# Altium footprint library Resistor.PcbLib: 22 footprints (part 2 of 2)
Each footprint in its own frame and in the unit in brackets; x right, y up, seen from the top. Pads: shape width x height; smd on the part's side, far side on the other; paste and mask are expansions set on the pad; w line width, h text height; cw(c..) or ccw(c..) is an arc to the next point about the centre after c.
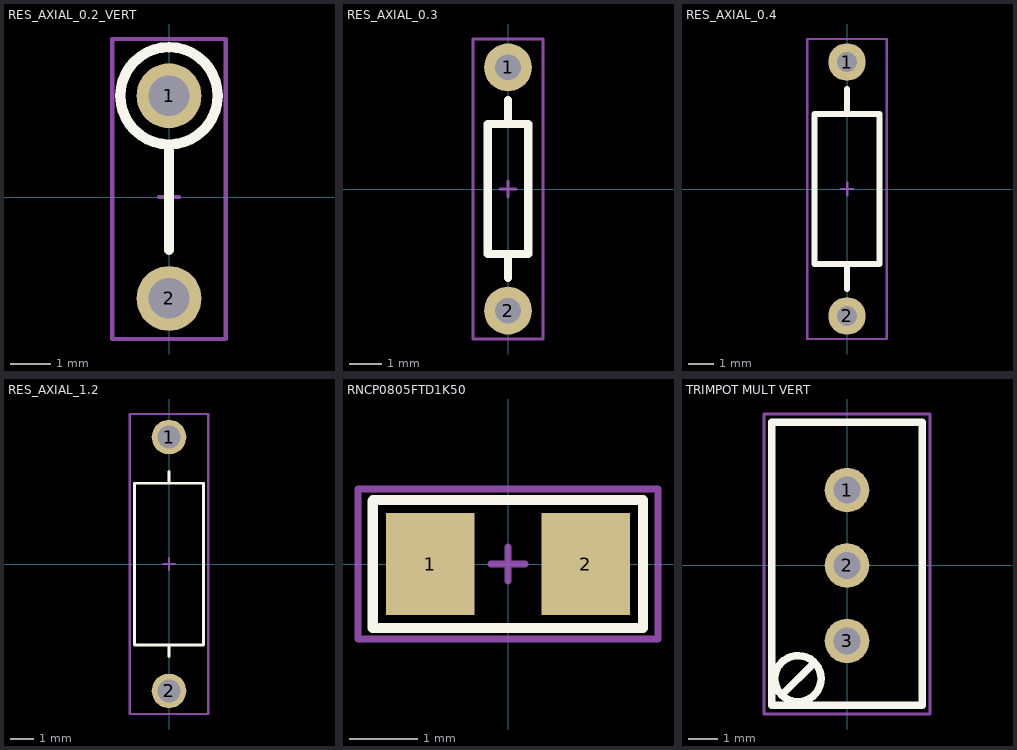
[diagram p1: the footprints below, top view; thin cyan lines are the x and y axes]

## RES_AXIAL_0.2_VERT [mm]
pads (2):
  round 1.6 hole 1 mask+0.127: 1(0,2.5) 2(0,-2.5)
Top Overlay:
  circle w0.254: c0,2.5 r1.2
  lines w0.254: 0,-1.3 0,1.3
Mechanical 15:
  lines w0.1: -0.25,0 0.25,0 ; 0,-0.25 0,0.25 ; -1.4,-3.5 -1.4,3.9 1.4,3.9 1.4,-3.5 -1.4,-3.5
3D body "User Library-RESAD500W60L650D230_0_25W.STEP": height 9.83, standoff -2.47, extent -1.15,-2.8 1.15,3.65

## RES_AXIAL_0.3 [mm]
pads (2):
  round 1.5 hole 0.8 mask+0.127: 1(0,3.81) 2(0,-3.81)
Top Overlay:
  lines w0.254: 0,-2.794 0,-2.032 ; 0,2.032 0,2.794 ; -0.635,-2.032 0.635,-2.032 0.635,2.032 -0.635,2.032 -0.635,-2.032
Mechanical 15:
  lines w0.1: -0.25,0 0.25,0 ; 0,-0.25 0,0.25 ; -1.1,-4.7 -1.1,4.7 1.1,4.7 1.1,-4.7 -1.1,-4.7
3D body "SW3DPS-RESISTOR 7_62MM DIP-DEFAULT.step": height 2.1, standoff -1.9, extent -1,-4.05 1,4.05

## RES_AXIAL_0.4 [mm]
pads (2):
  round 1.5 hole 0.8 mask+0.127: 1(0,5.08) 2(0,-5.08)
Top Overlay:
  lines w0.254: 0,-4 0,-3 ; 0,3 0,4 ; -1.3,-3 -1.3,3 1.3,3 1.3,-3 -1.3,-3
Mechanical 15:
  lines w0.1: -0.25,0 0.25,0 ; 0,-0.25 0,0.25 ; -1.6,-6 -1.6,6 1.6,6 1.6,-6 -1.6,-6
3D body "User Library-RESISTOR, 0_25 W, 0_4 IN LEAD PITCH.step": height 2.93, standoff -2.54, extent -1.156,-5.385 1.156,5.385

## RES_AXIAL_1.2 [mm]
pads (2):
  round 1.5 hole 1: 1(0,5.5) 2(0,-5.5)
Top Overlay:
  lines w0.127: 0,-4 0,-3.501 ; 0,3.499 0,4 ; -1.501,-3.501 1.501,-3.501 1.501,3.499 -1.501,3.499 -1.501,-3.501
Mechanical 15:
  lines w0.1: -0.25,0 0.25,0 ; 0,-0.25 0,0.25 ; -1.7,-6.5 1.7,-6.5 1.7,6.5 -1.7,6.5 -1.7,-6.5
3D body "RES_AXIAL_1_2.stp": height 2.41, standoff -3.17, extent -1.27,-5.715 1.27,5.639

## RNCP0805FTD1K50 [mm] "RES SMD 1.5K OHM 1% 1/4W 0805"
height 1.1
pads (2):
  rect 1.3x1.5 smd: 1(-1.143,0) 2(1.143,0)
Top Overlay:
  lines w0.15: -1.983,0.925 -1.983,-0.94 1.981,-0.94 1.981,0.94 -1.981,0.94
Mechanical 15:
  lines w0.1: -0.25,0 0.25,0 ; 0,-0.25 0,0.25 ; -2.2,-1.1 -2.2,1.1 2.2,1.1 2.2,-1.1 -2.2,-1.1
3D body "7777777777777777777777777777777.STEP": height 0.44, standoff -0.01, extent -1,-0.625 1,0.625

## TRIMPOT MULT VERT [mm]
pads (3):
  round 1.5 hole 0.9: 1(0,2.54) 2(0,0) 3(0,-2.54)
Top Overlay:
  circle w0.254: c-1.651,-3.81 r0.778
  lines w0.254: -2.184,-4.343 -1.143,-3.302 ; -2.54,-4.699 2.54,-4.699 2.54,4.826 -2.54,4.826 -2.54,-4.699
Mechanical 15:
  lines w0.1: -0.25,0 0.25,0 ; 0,-0.25 0,0.25 ; -2.8,-5 2.8,-5 2.8,5.1 -2.8,5.1 -2.8,-5
3D body "Potenciometro Multivoltas Vertical.STEP": height 12.06, standoff -5.44, extent -2.413,-4.563 2.387,4.637